# Altium schematic symbol library TES 3-2411.Schlib: 1 symbol
Pins are listed as number, name and electrical type; pins without a type are passive.

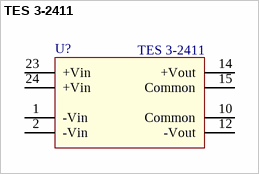
[diagram p0: symbol TES 3-2411]

## TES 3-2411
designator U?
Назначение: ВИП 27-5; Наименование: TES 3-2411
footprint TES3
pins: 1 -Vin (oc), 2 -Vin (oc), 10 Common (oc), 12 -Vout (oc), 14 +Vout (oc), 15 Common (oc), 23 +Vin (oc), 24 +Vin (oc)